# Altium schematic symbol library MHSS1104.SchLib: 1 symbol
Pins are listed as number, name and electrical type; pins without a type are passive.

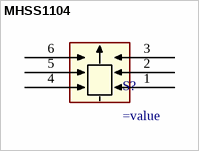
[diagram p0: symbol MHSS1104]

## MHSS1104
designator S?
pins: 1, 2, 3, 4, 5, 6